# Altium schematic symbol library Teensy.SchLib: 3 symbols
Pins are listed as number, name and electrical type; pins without a type are passive.

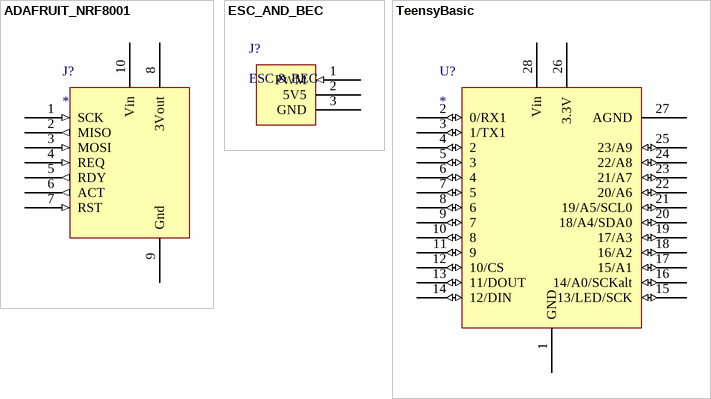
[diagram p0: symbols ADAFRUIT_NRF8001 to TeensyBasic]

## ADAFRUIT_NRF8001
designator J?
footprint HDR1X10 (Connector; Header; 10 Position)
pins: 1 SCK (in), 2 MISO (out), 3 MOSI (in), 4 REQ (in), 5 RDY (out), 6 ACT (out), 7 RST (in), 8 3Vout (power), 9 Gnd (power), 10 Vin (power)

## ESC_AND_BEC
designator J?, comment ESC & BEC
pins: 1 PWM (in), 2 5V5 (power), 3 GND (power)

## TeensyBasic
designator U?
footprint TeensyBasic
pins: 1 GND (power), 2 0/RX1 (io), 3 1/TX1 (io), 4 2 (io), 5 3 (io), 6 4 (io), 7 5 (io), 8 6 (io), 9 7 (io), 10 8 (io), 11 9 (io), 12 10/CS (io), 13 11/DOUT (io), 14 12/DIN (io), 15 13/LED/SCK (io), 16 14/A0/SCKalt (io), 17 15/A1 (io), 18 16/A2 (io), 19 17/A3 (io), 20 18/A4/SDA0 (io), 21 19/A5/SCL0 (io), 22 20/A6 (io), 23 21/A7 (io), 24 22/A8 (io), 25 23/A9 (io), 26 3.3V (power), 27 AGND (power), 28 Vin (power)